# Altium footprint library CONN_USB_C.PcbLib: 34 footprints (part 1 of 3)
Each footprint in its own frame and in the unit in brackets; x right, y up, seen from the top. Pads: shape width x height; smd on the part's side, far side on the other; paste and mask are expansions set on the pad; w line width, h text height; cw(c..) or ccw(c..) is an arc to the next point about the centre after c.
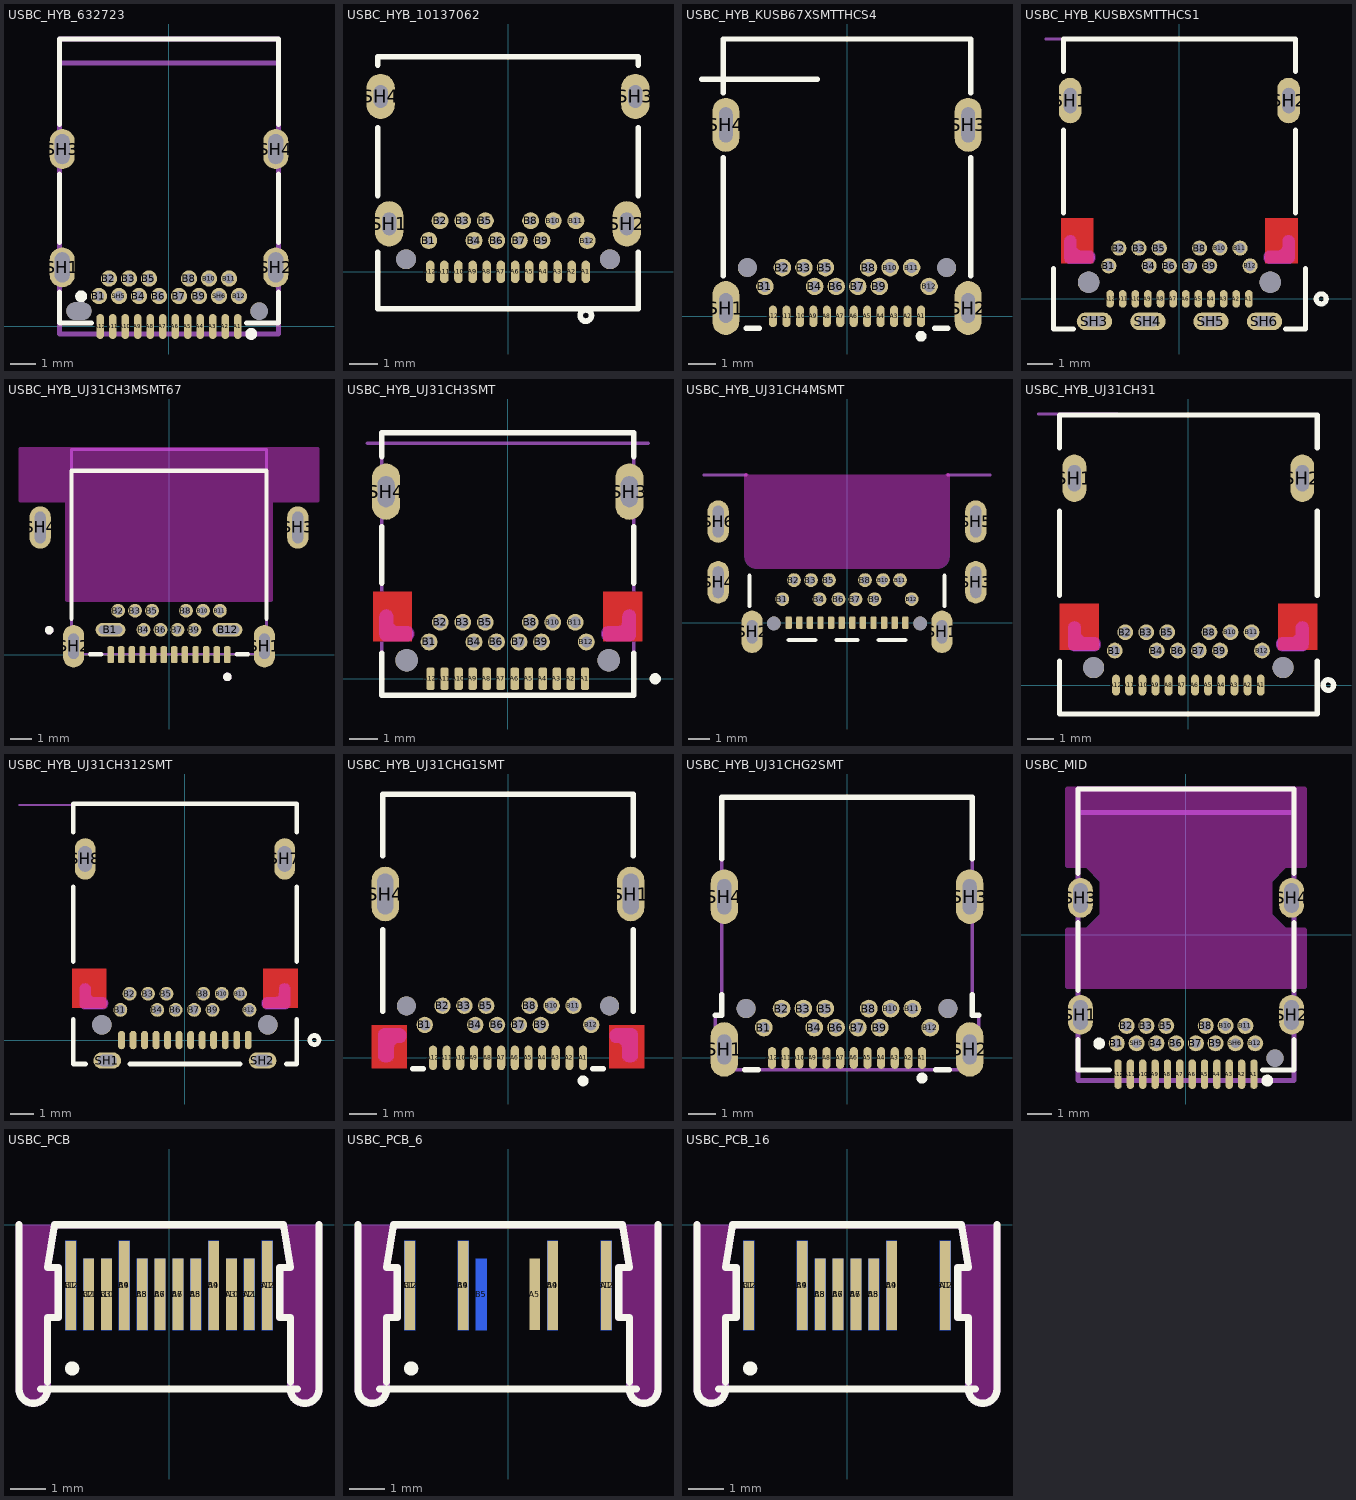
[diagram p0: the footprints below, top view; thin cyan lines are the x and y axes]

## USBC_CABLE [mm] "CONN, USB C , CABLE"
3D body "dx07518s10n18747.stp": height 3.18, standoff -3.17, extent -6.1,0 6.1,65.786

## USBC_HYB_632723 [mm] "CONN, USB, Type C, USB 3.1, Receptacle Horizontal, 632723"
height 2.96
pads (32):
  oval 0.3x1 smd mask+0.075: A1(2.75,0) A2(2.25,0) A3(1.75,0) A4(1.25,0) A5(0.75,0) A6(0.25,0) A7(-0.25,0) A8(-0.75,0) A9(-1.25,0) A10(-1.75,0) A11(-2.25,0) A12(-2.75,0)
  round 0.65 hole 0.4: B1(-2.8,1.215) B2(-2.4,1.915) B3(-1.6,1.915) B4(-1.2,1.215) B5(-0.8,1.915) B6(-0.4,1.215) B7(0.4,1.215) B8(0.8,1.915) B9(1.2,1.215) B10(1.6,1.915) B11(2.4,1.915) B12(2.8,1.215) SH5(-2,1.215) SH6(2,1.215)
  oval 1x1.6 hole 0.6 slot 1.2 at 90 deg: SH1(-4.27,2.365) SH2(4.27,2.365) SH3(-4.27,7.095) SH4(4.27,7.095)
  oval 1x0.7 hole 0.7 slot 1 at 0 deg unplated mask+0.05: ""(-3.6,0.615)
  round 0.7 hole 0.7 unplated mask+0.05: ""(3.6,0.615)
Top Overlay:
  circle w0.25: c-3.512,1.205 r0.114
  circle w0.25: c3.288,-0.295 r0.114
  lines w0.2: -4.37,1.375 -4.37,0.135 -3.1,0.135 ; -4.37,3.355 -4.37,6.095 ; -4.37,8.085 -4.37,11.495 4.37,11.495 4.37,8.085 ; 3.1,0.135 4.37,0.135 4.37,1.375 ; 4.37,3.355 4.37,6.095
Mechanical 13:
  lines w0.2: -4.37,-0.295 -4.37,11.495 4.37,11.495 4.37,-0.295 -4.37,-0.295
Mechanical 15:
  lines w0.2: -4.37,10.545 4.37,10.545
3D body "632723100011.stp": height 3.05, standoff -1.41, extent -4.37,-0.299 4.37,11.495

## USBC_HYB_10137062 [mm] "CONN, USB, Type C, 10137062"
height 3.2
pads (30):
  oval 0.3x0.8 smd mask+0.075: A1(2.75,0) A2(2.25,0) A3(1.75,0) A4(1.25,0) A5(0.75,0) A6(0.25,0) A7(-0.25,0) A8(-0.75,0) A9(-1.25,0) A10(-1.75,0) A11(-2.25,0) A12(-2.75,0)
  round 0.6 hole 0.3 mask+0.075: B1(-2.8,1.11) B2(-2.4,1.81) B3(-1.6,1.81) B4(-1.2,1.11) B5(-0.8,1.81) B6(-0.4,1.11) B7(0.4,1.11) B8(0.8,1.81) B9(1.2,1.11) B10(1.6,1.81) B11(2.4,1.81) B12(2.8,1.11)
  oval 1x1.6 hole 0.5 slot 0.8 at 90 deg: SH1(-4.2,1.7) SH2(4.2,1.7) SH3(4.5,6.2) SH4(-4.5,6.2)
  round 0.7 hole 0.7 unplated: ""(-3.6,0.45) ""(3.6,0.45)
Top Overlay:
  circle w0.2: c2.75,-1.54 r0.2
  lines w0.2: -4.6,0.7 -4.6,-1.3 4.6,-1.3 4.6,0.7 ; -4.6,2.7 -4.6,5.1 ; -4.6,7.31 -4.6,7.6 4.6,7.6 4.6,7.31 ; 4.6,2.7 4.6,5.1
3D body "10137062c.stp": height 3.17, standoff -1.02, extent -4.825,-1.2 4.825,7.5

## USBC_HYB_KUSB67XSMTTHCS4 [mm] "CONN, USB, Type C, KUSB67X-SMTTH-CS4"
pads (30):
  oval 0.3x0.8 smd mask+0.075: A1(2.75,0) A2(2.25,0) A3(1.75,0) A4(1.25,0) A5(0.75,0) A6(0.25,0) A7(-0.25,0) A8(-0.75,0) A9(-1.25,0) A10(-1.75,0) A11(-2.25,0) A12(-2.75,0)
  round 0.65 hole 0.4 mask+0.075: B1(-3.05,1.11) B2(-2.4,1.81) B3(-1.6,1.81) B4(-1.2,1.11) B5(-0.8,1.81) B6(-0.4,1.11) B7(0.4,1.11) B8(0.8,1.81) B9(1.2,1.11) B10(1.6,1.81) B11(2.4,1.81) B12(3.05,1.11)
  oval 1x2 hole 0.5 slot 1.1 at 90 deg: SH1(-4.5,0.31) SH2(4.5,0.31)
  oval 1x2 hole 0.5 slot 1.3 at 90 deg: SH3(4.5,7.11) SH4(-4.5,7.11)
  round 0.7 hole 0.7 unplated: ""(-3.7,1.81) ""(3.7,1.81)
Top Overlay:
  circle w0.2: c2.75,-0.74 r0.1
  lines w0.2: -5.4,8.8 -1.1,8.8 ; -4.6,1.5 -4.6,5.9 ; -4.6,8.3 -4.6,10.3 4.6,10.3 4.6,8.3 ; -3.75,-0.44 -3.25,-0.44 ; 3.25,-0.44 3.75,-0.44 ; 4.6,1.5 4.6,5.9
Mechanical 13:
  text "PCB EDGE" at -0.8,8.6 h0.4
3D body "KUSB67X-SMTTH-CS4-BTR_A.STEP": height 3.72, standoff -0.6, extent -4.87,-0.45 4.87,10.2

## USBC_HYB_KUSBXSMTTHCS1 [mm] "CONN, USB, Type C, KUSBX-SMTTH-CS1, UJ31-CH-314-SMT"
height 3.2
pads (32):
  oval 0.3x0.7 smd mask+0.075: A1(2.75,0) A2(2.25,0) A3(1.75,0) A4(1.25,0) A5(0.75,0) A6(0.25,0) A7(-0.25,0) A8(-0.75,0) A9(-1.25,0) A10(-1.75,0) A11(-2.25,0) A12(-2.75,0)
  round 0.6 hole 0.4: B1(-2.8,1.31) B2(-2.4,2.01) B3(-1.6,2.01) B4(-1.2,1.31) B5(-0.8,2.01) B6(-0.4,1.31) B7(0.4,1.31) B8(0.8,2.01) B9(1.2,1.31) B10(1.6,2.01) B11(2.4,2.01) B12(2.8,1.31)
  oval 0.9x1.8 hole 0.5 slot 1 at 90 deg: SH1(-4.33,7.86) SH2(4.33,7.86)
  oval 1.4x0.7 hole 0.4 slot 0.8 at 0 deg: SH3(-3.37,-0.89) SH4(-1.25,-0.89) SH5(1.25,-0.89) SH6(3.37,-0.89)
  round 0.85 hole 0.85 unplated: ""(-3.6,0.66) ""(3.6,0.66)
Top Layer:
  rectangle: -4.7,1.4 -3.4,3.2
  region: 4.7,3.2 3.4,3.2 3.4,1.4 4.7,1.4
Top Overlay:
  circle w0.2: c5.62,0 r0.2
  lines w0.2: -5,1.2 -5,-1.2 -4.2,-1.2 ; -4.6,3.4 -4.6,6.7 ; -4.6,9.01 -4.6,10.3 4.6,10.3 4.6,9.01 ; 4.2,-1.2 5,-1.2 5,1.2 ; 4.6,3.4 4.6,6.7
Keep-Out Layer:
  board cut-out: 4.325,1.425 4.365,1.425 4.438,1.455 4.495,1.512 4.525,1.585 4.525,1.625 4.525,2.275 4.525,2.315 4.495,2.388 4.438,2.445 4.365,2.475 4.325,2.475 4.285,2.475 4.212,2.445 4.155,2.388 4.125,2.315 4.125,2.275 4.125,2.075 4.121,2.036 4.091,1.964 4.036,1.909 3.964,1.879 3.925,1.875 3.575,1.875 3.535,1.875 3.462,1.845 3.405,1.788 3.375,1.715 3.375,1.675 3.375,1.625 3.375,1.585 3.405,1.512 3.462,1.455 3.535,1.425 3.575,1.425
  board cut-out: -4.325,1.425 -4.365,1.425 -4.438,1.455 -4.495,1.512 -4.525,1.585 -4.525,1.625 -4.525,2.275 -4.525,2.315 -4.495,2.388 -4.438,2.445 -4.365,2.475 -4.325,2.475 -4.285,2.475 -4.212,2.445 -4.155,2.388 -4.125,2.315 -4.125,2.275 -4.125,2.075 -4.121,2.036 -4.091,1.964 -4.036,1.909 -3.964,1.879 -3.925,1.875 -3.575,1.875 -3.535,1.875 -3.462,1.845 -3.405,1.788 -3.375,1.715 -3.375,1.675 -3.375,1.625 -3.375,1.585 -3.405,1.512 -3.462,1.455 -3.535,1.425 -3.575,1.425
Keep-Out Layer:
  lines w0.1: -4.525,1.625 ccw(c-4.325,1.625) -4.325,1.425 -3.575,1.425 ccw(c-3.575,1.625) -3.375,1.625 -3.375,1.675 ccw(c-3.575,1.675) -3.575,1.875 -3.925,1.875 cw(c-3.925,2.075) -4.125,2.075 -4.125,2.275 ccw(c-4.325,2.275) -4.325,2.475 ccw(c-4.325,2.275) -4.525,2.275 -4.525,1.625 ; 3.375,1.625 ccw(c3.575,1.625) 3.575,1.425 4.325,1.425 ccw(c4.325,1.625) 4.525,1.625 4.525,2.275 ccw(c4.325,2.275) 4.325,2.475 ccw(c4.325,2.275) 4.125,2.275 4.125,2.075 cw(c3.925,2.075) 3.925,1.875 3.575,1.875 ccw(c3.575,1.675) 3.375,1.675 3.375,1.625
Mechanical 1:
  lines w0.5: -4.325,2.25 -4.325,1.65 -3.6,1.65 ; 3.6,1.65 4.325,1.65 4.325,2.25
Mechanical 13:
  lines w0.1: -5.3,10.3 -3.9,10.3
  text "PCB EDGE" at -5.2,10.6 h0.4
3D body "KUSBX-SMTTH-CS1.STEP": height 3.18, standoff -0.88, extent -4.85,-1.05 4.85,10.25

## USBC_HYB_UJ31CH3MSMT67 [mm] "CONN, USB, Type C, Gen 2, Right-Angle, Mid Mount, HYBRID, Waterproof, UJ31-CH-3-MSMT-TR-67"
pads (28):
  rrect50% 0.3x0.8 smd mask+0.075: A1(2.75,0) A2(2.25,0) A3(1.75,0) A4(1.25,0) A5(0.75,0) A6(0.25,0) A7(-0.25,0) A8(-0.75,0) A9(-1.25,0) A10(-1.75,0) A11(-2.25,0) A12(-2.75,0)
  oval 1.4x0.65 hole 0.4 slot 1.1 at 0 deg mask+0.075: B1(-2.76,1.175) B12(2.76,1.175)
  round 0.65 hole 0.4 mask+0.075: B2(-2.4,2.075) B3(-1.6,2.075) B4(-1.2,1.175) B5(-0.8,2.075) B6(-0.4,1.175) B7(0.4,1.175) B8(0.8,2.075) B9(1.2,1.175) B10(1.6,2.075) B11(2.4,2.075)
  oval 1x2 hole 0.5 slot 1.2 at 90 deg: SH1(4.5,0.4) SH2(-4.5,0.4)
  oval 1x2 hole 0.5 slot 1.5 at 90 deg: SH3(6.075,6) SH4(-6.075,6)
Top Overlay:
  circle w0.2: c2.75,-1.045 r0.1
  circle w0.2: c-5.65,1.155 r0.1
  lines w0.2: -4.6,1.695 -4.6,8.675 4.6,8.675 4.6,1.695 ; -3.73,0.025 -3.2,0.025 ; 3.2,0.025 3.73,0.025
Keep-Out Layer:
  board cut-out: -7,7.275 -7,9.7 7,9.7 7,7.275 4.8,7.275 4.8,2.575 -4.8,2.575 -4.8,7.275
Keep-Out Layer:
  lines w0.2: -7,7.275 -4.8,7.275 -4.8,2.575 4.8,2.575 4.8,7.275 7,7.275 7,9.7 -7,9.7 -7,7.275
Mechanical 13:
  circle w0.2: c2.75,-1.045 r0.1
  circle w0.2: c-5.65,1.155 r0.1
  lines w0.127: -4.6,8.675 -4.6,0.025 4.6,0.025 4.6,8.675 ; -4.6,8.675 -4.6,9.675 4.6,9.675 4.6,8.675 ; -4.6,8.675 4.6,8.675
3D body "UJ31-CH-3-MSMT-TR-67.step": height 2.31, standoff -1.71, extent -6.175,-0.25 6.175,9.686

## USBC_HYB_UJ31CH3SMT [mm] "CONN, USB, Type C, USB 3.1 Gen 2, Right-Angle, HYBRID, UJ31-CH-3-SMT"
pads (28):
  rrect50% 0.3x0.8 smd mask+0.075: A1(2.75,0) A2(2.25,0) A3(1.75,0) A4(1.25,0) A5(0.75,0) A6(0.25,0) A7(-0.25,0) A8(-0.75,0) A9(-1.25,0) A10(-1.75,0) A11(-2.25,0) A12(-2.75,0)
  round 0.6 hole 0.4 mask+0.075: B1(-2.8,1.31) B2(-2.4,2.01) B3(-1.6,2.01) B4(-1.2,1.31) B5(-0.8,2.01) B6(-0.4,1.31) B7(0.4,1.31) B8(0.8,2.01) B9(1.2,1.31) B10(1.6,2.01) B11(2.4,2.01) B12(2.8,1.31)
  oval 1x2 hole 0.6 slot 1.1 at 90 deg: SH3(4.33,6.66) SH4(-4.33,6.66)
  round 0.8 hole 0.8 unplated: ""(-3.6,0.66) ""(3.6,0.66)
Top Layer:
  region: 3.4,3.1 3.4,1.325 4.8,1.325 4.8,3.1
  region: -4.8,3.1 -4.8,1.325 -3.4,1.325 -3.4,3.1
Top Overlay:
  circle w0.2: c5.25,0 r0.1
  lines w0.2: -4.48,0.91 -4.48,-0.59 4.48,-0.59 4.48,0.91 ; -4.48,3.41 -4.48,5.41 ; -4.48,7.91 -4.48,8.76 4.48,8.76 4.48,7.91 ; 4.48,3.41 4.48,5.41
Keep-Out Layer:
  board cut-out: -4.325,1.375 -4.365,1.375 -4.438,1.405 -4.495,1.462 -4.525,1.535 -4.525,1.575 -4.525,2.225 -4.525,2.265 -4.495,2.338 -4.438,2.395 -4.365,2.425 -4.325,2.425 -4.285,2.425 -4.212,2.395 -4.155,2.338 -4.125,2.265 -4.125,2.225 -4.125,2.025 -4.121,1.986 -4.091,1.914 -4.036,1.859 -3.964,1.829 -3.925,1.825 -3.575,1.825 -3.535,1.825 -3.462,1.795 -3.405,1.738 -3.375,1.665 -3.375,1.625 -3.375,1.575 -3.375,1.535 -3.405,1.462 -3.462,1.405 -3.535,1.375 -3.575,1.375
  board cut-out: 4.325,1.375 4.365,1.375 4.438,1.405 4.495,1.462 4.525,1.535 4.525,1.575 4.525,2.225 4.525,2.265 4.495,2.338 4.438,2.395 4.365,2.425 4.325,2.425 4.285,2.425 4.212,2.395 4.155,2.338 4.125,2.265 4.125,2.225 4.125,2.025 4.121,1.986 4.091,1.914 4.036,1.859 3.964,1.829 3.925,1.825 3.575,1.825 3.535,1.825 3.462,1.795 3.405,1.738 3.375,1.665 3.375,1.625 3.375,1.575 3.375,1.535 3.405,1.462 3.462,1.405 3.535,1.375 3.575,1.375
Keep-Out Layer:
  lines w0.1: -4.525,1.575 ccw(c-4.325,1.575) -4.325,1.375 -3.575,1.375 ccw(c-3.575,1.575) -3.375,1.575 -3.375,1.625 ccw(c-3.575,1.625) -3.575,1.825 -3.925,1.825 cw(c-3.925,2.025) -4.125,2.025 -4.125,2.225 ccw(c-4.325,2.225) -4.325,2.425 ccw(c-4.325,2.225) -4.525,2.225 -4.525,1.575 ; 3.375,1.575 ccw(c3.575,1.575) 3.575,1.375 4.325,1.375 ccw(c4.325,1.575) 4.525,1.575 4.525,2.225 ccw(c4.325,2.225) 4.325,2.425 ccw(c4.325,2.225) 4.125,2.225 4.125,2.025 cw(c3.925,2.025) 3.925,1.825 3.575,1.825 ccw(c3.575,1.625) 3.375,1.625 3.375,1.575
Mechanical 1:
  lines w0.5: -4.325,2.2 -4.325,1.6 -3.6,1.6 ; 3.6,1.6 4.325,1.6 4.325,2.2
Mechanical 13:
  circle w0.127: c2.75,-0.1 r0.06
  lines w0.127: -5,8.38 5,8.38 ; -4.48,-0.59 -4.48,8.76 4.48,8.76 4.48,-0.59 -4.48,-0.59
3D body "UJ31-CH-3-SMT-TR.step": height 3.13, standoff -0.93, extent -4.48,-0.6 4.48,8.75

## USBC_HYB_UJ31CH4MSMT [mm] "CONN, USB, Type C, UJ31-CH-4-MSMT"
pads (32):
  rrect50% 0.3x0.6 smd mask+0.075: A1(2.75,0) A2(2.25,0) A3(1.75,0) A4(1.25,0) A5(0.75,0) A6(0.25,0) A7(-0.25,0) A8(-0.75,0) A9(-1.25,0) A10(-1.75,0) A11(-2.25,0) A12(-2.75,0)
  round 0.65 hole 0.4: B1(-3.05,1.11) B2(-2.5,2.01) B3(-1.7,2.01) B4(-1.3,1.11) B5(-0.85,2.01) B6(-0.4,1.11) B7(0.4,1.11) B8(0.85,2.01) B9(1.3,1.11) B10(1.7,2.01) B11(2.5,2.01) B12(3.05,1.11)
  oval 1x2 hole 0.5 slot 1.1 at 90 deg: SH1(4.475,-0.43) SH2(-4.475,-0.43)
  oval 1x2 hole 0.5 slot 1.5 at 90 deg: SH3(6.075,1.91) SH4(-6.075,1.91) SH5(6.075,4.77) SH6(-6.075,4.77)
  round 0.65 hole 0.65 unplated: ""(-3.45,-0.03) ""(3.45,-0.03)
Top Overlay:
  lines w0.2: -4.6,0.79 -4.6,2.22 ; -2.75,-0.82 -1.5,-0.82 ; -0.5,-0.82 0.5,-0.82 ; 1.5,-0.82 2.75,-0.82 ; 4.6,0.79 4.6,2.22
Keep-Out Layer:
  board cut-out: -4.25,2.63 -4.349,2.63 -4.533,2.706 -4.674,2.847 -4.75,3.031 -4.75,3.13 -4.75,6.97 4.75,6.97 4.75,3.13 4.75,3.031 4.674,2.847 4.533,2.706 4.349,2.63 4.25,2.63
Keep-Out Layer:
  lines w0.2: -4.75,6.97 -4.75,3.13 ccw(c-4.25,3.13) -4.25,2.63 4.25,2.63 ccw(c4.25,3.13) 4.75,3.13 4.75,6.97
Mechanical 13:
  lines w0.127: -6.75,6.97 -4.75,6.97 ; 4.75,6.97 6.75,6.97
  text "PCB EDGE" at -8.806,7.201 h0.5
  text "PCB EDGE" at 4.952,7.198 h0.5
3D body "UJ31-CH-4-MSMT-TR.step": height 2.46, standoff -0.96, extent -6.175,-0.84 6.175,9.03

## USBC_HYB_UJ31CH31 [mm] "CONN, USB, Type C, UJ31-CH-31N-SMT, UJ31-CH-31-SMT"
pads (28):
  oval 0.3x0.8 smd mask+0.075: A1(2.75,0) A2(2.25,0) A3(1.75,0) A4(1.25,0) A5(0.75,0) A6(0.25,0) A7(-0.25,0) A8(-0.75,0) A9(-1.25,0) A10(-1.75,0) A11(-2.25,0) A12(-2.75,0)
  round 0.6 hole 0.4: B1(-2.8,1.31) B2(-2.4,2.01) B3(-1.6,2.01) B4(-1.2,1.31) B5(-0.8,2.01) B6(-0.4,1.31) B7(0.4,1.31) B8(0.8,2.01) B9(1.2,1.31) B10(1.6,2.01) B11(2.4,2.01) B12(2.8,1.31)
  oval 0.9x1.8 hole 0.5 slot 1 at 90 deg: SH1(-4.33,7.86) SH2(4.33,7.86)
  round 0.8 hole 0.8 unplated: ""(-3.6,0.66) ""(3.6,0.66)
Top Layer:
  region: 3.4,3.1 3.4,1.325 4.9,1.325 4.9,3.1
  region: -4.9,3.1 -4.9,1.325 -3.4,1.325 -3.4,3.1
Top Overlay:
  circle w0.2: c5.32,0 r0.2
  lines w0.2: -4.9,0.91 -4.9,-1.1 4.9,-1.1 4.9,0.91 ; -4.9,3.4 -4.9,6.6 ; -4.9,9.01 -4.9,10.26 4.9,10.26 4.9,9.01 ; 4.9,3.4 4.9,6.6
Keep-Out Layer:
  board cut-out: 4.325,1.325 4.365,1.325 4.438,1.355 4.495,1.412 4.525,1.485 4.525,1.525 4.525,2.175 4.525,2.215 4.495,2.288 4.438,2.345 4.365,2.375 4.325,2.375 4.285,2.375 4.212,2.345 4.155,2.288 4.125,2.215 4.125,2.175 4.125,1.975 4.121,1.936 4.091,1.864 4.036,1.809 3.964,1.779 3.925,1.775 3.575,1.775 3.535,1.775 3.462,1.745 3.405,1.688 3.375,1.615 3.375,1.575 3.375,1.525 3.375,1.485 3.405,1.412 3.462,1.355 3.535,1.325 3.575,1.325
  board cut-out: -4.325,1.325 -4.365,1.325 -4.438,1.355 -4.495,1.412 -4.525,1.485 -4.525,1.525 -4.525,2.175 -4.525,2.215 -4.495,2.288 -4.438,2.345 -4.365,2.375 -4.325,2.375 -4.285,2.375 -4.212,2.345 -4.155,2.288 -4.125,2.215 -4.125,2.175 -4.125,1.975 -4.121,1.936 -4.091,1.864 -4.036,1.809 -3.964,1.779 -3.925,1.775 -3.575,1.775 -3.535,1.775 -3.462,1.745 -3.405,1.688 -3.375,1.615 -3.375,1.575 -3.375,1.525 -3.375,1.485 -3.405,1.412 -3.462,1.355 -3.535,1.325 -3.575,1.325
Keep-Out Layer:
  lines w0.1: -4.525,1.525 ccw(c-4.325,1.525) -4.325,1.325 -3.575,1.325 ccw(c-3.575,1.525) -3.375,1.525 -3.375,1.575 ccw(c-3.575,1.575) -3.575,1.775 -3.925,1.775 cw(c-3.925,1.975) -4.125,1.975 -4.125,2.175 ccw(c-4.325,2.175) -4.325,2.375 ccw(c-4.325,2.175) -4.525,2.175 -4.525,1.525 ; 3.375,1.525 ccw(c3.575,1.525) 3.575,1.325 4.325,1.325 ccw(c4.325,1.525) 4.525,1.525 4.525,2.175 ccw(c4.325,2.175) 4.325,2.375 ccw(c4.325,2.175) 4.125,2.175 4.125,1.975 cw(c3.925,1.975) 3.925,1.775 3.575,1.775 ccw(c3.575,1.575) 3.375,1.575 3.375,1.525
Mechanical 1:
  lines w0.5: -4.325,2.15 -4.325,1.55 -3.6,1.55 ; 3.6,1.55 4.325,1.55 4.325,2.15
Mechanical 13:
  lines w0.1: -5.7,10.3 -2.7,10.3
  text "PCB EDGE" at -5.5,10.5 h0.4
3D body "UJ31-CH-31N-SMT-TR.step": height 3.2, standoff -0.88, extent -4.85,-1.05 4.85,10.25

## USBC_HYB_UJ31CH312SMT [mm] "CONN, USB, Type C, UJ31-CH-312-SMT"
pads (30):
  oval 0.3x0.8 smd mask+0.075: A1(2.75,0) A2(2.25,0) A3(1.75,0) A4(1.25,0) A5(0.75,0) A6(0.25,0) A7(-0.25,0) A8(-0.75,0) A9(-1.25,0) A10(-1.75,0) A11(-2.25,0) A12(-2.75,0)
  round 0.6 hole 0.4: B1(-2.8,1.31) B2(-2.4,2.01) B3(-1.6,2.01) B4(-1.2,1.31) B5(-0.8,2.01) B6(-0.4,1.31) B7(0.4,1.31) B8(0.8,2.01) B9(1.2,1.31) B10(1.6,2.01) B11(2.4,2.01) B12(2.8,1.31)
  oval 1.2x0.7 hole 0.5 slot 0.8 at 0 deg: SH1(-3.37,-0.89) SH2(3.37,-0.89)
  oval 0.9x1.8 hole 0.6 slot 1.1 at 90 deg: SH7(4.33,7.86) SH8(-4.33,7.86)
  round 0.85 hole 0.85 unplated: ""(-3.6,0.66) ""(3.6,0.66)
Top Layer:
  region: 3.4,3.1 3.4,1.4 4.9,1.4 4.9,3.1
  region: -4.9,3.1 -4.9,1.4 -3.4,1.4 -3.4,3.1
Top Overlay:
  circle w0.2: c5.62,0 r0.2
  lines w0.2: -4.85,-1.04 -4.85,0.91 ; -4.85,3.41 -4.85,6.66 ; -4.85,9.01 -4.85,10.26 4.85,10.26 4.85,9.01 ; -4.8,-1.04 -4.3,-1.04 ; -2.4,-1.04 2.4,-1.04 ; 4.4,-1.04 4.8,-1.04 ; 4.85,-1.04 4.85,0.91 ; 4.85,3.41 4.85,6.66
Keep-Out Layer:
  board cut-out: 4.325,1.365 4.365,1.365 4.438,1.395 4.495,1.452 4.525,1.525 4.525,1.565 4.525,2.215 4.525,2.255 4.495,2.328 4.438,2.385 4.365,2.415 4.325,2.415 4.285,2.415 4.212,2.385 4.155,2.328 4.125,2.255 4.125,2.215 4.125,2.015 4.121,1.976 4.091,1.904 4.036,1.849 3.964,1.819 3.925,1.815 3.575,1.815 3.535,1.815 3.462,1.785 3.405,1.728 3.375,1.655 3.375,1.615 3.375,1.565 3.375,1.525 3.405,1.452 3.462,1.395 3.535,1.365 3.575,1.365
  board cut-out: -4.325,1.365 -4.365,1.365 -4.438,1.395 -4.495,1.452 -4.525,1.525 -4.525,1.565 -4.525,2.215 -4.525,2.255 -4.495,2.328 -4.438,2.385 -4.365,2.415 -4.325,2.415 -4.285,2.415 -4.212,2.385 -4.155,2.328 -4.125,2.255 -4.125,2.215 -4.125,2.015 -4.121,1.976 -4.091,1.904 -4.036,1.849 -3.964,1.819 -3.925,1.815 -3.575,1.815 -3.535,1.815 -3.462,1.785 -3.405,1.728 -3.375,1.655 -3.375,1.615 -3.375,1.565 -3.375,1.525 -3.405,1.452 -3.462,1.395 -3.535,1.365 -3.575,1.365
Keep-Out Layer:
  lines w0.1: -4.525,1.565 ccw(c-4.325,1.565) -4.325,1.365 -3.575,1.365 ccw(c-3.575,1.565) -3.375,1.565 -3.375,1.615 ccw(c-3.575,1.615) -3.575,1.815 -3.925,1.815 cw(c-3.925,2.015) -4.125,2.015 -4.125,2.215 ccw(c-4.325,2.215) -4.325,2.415 ccw(c-4.325,2.215) -4.525,2.215 -4.525,1.565 ; 3.375,1.565 ccw(c3.575,1.565) 3.575,1.365 4.325,1.365 ccw(c4.325,1.565) 4.525,1.565 4.525,2.215 ccw(c4.325,2.215) 4.325,2.415 ccw(c4.325,2.215) 4.125,2.215 4.125,2.015 cw(c3.925,2.015) 3.925,1.815 3.575,1.815 ccw(c3.575,1.615) 3.375,1.615 3.375,1.565
Mechanical 1:
  lines w0.5: -4.325,2.2 -4.325,1.6 -3.6,1.6 ; 3.6,1.6 4.325,1.6 4.325,2.2
Mechanical 13:
  lines w0.1: -7.2,10.2 -4.9,10.2
  text "PCB EDGE" at -7.1,10.5 h0.4
3D body "UJ31-CH-312-SMT-TR.step": height 3.2, standoff -0.88, extent -4.85,-1.05 4.85,10.25

## USBC_HYB_UJ31CHG1SMT [mm] "CONN, USB, Type C, UJ31-CH-G1-SMT"
pads (28):
  oval 0.3x0.9 smd mask+0.075: A1(2.75,0) A2(2.25,0) A3(1.75,0) A4(1.25,0) A5(0.75,0) A6(0.25,0) A7(-0.25,0) A8(-0.75,0) A9(-1.25,0) A10(-1.75,0) A11(-2.25,0) A12(-2.75,0)
  round 0.6 hole 0.4: B1(-3.05,1.205) B2(-2.4,1.905) B3(-1.6,1.905) B4(-1.2,1.205) B5(-0.8,1.905) B6(-0.4,1.205) B7(0.4,1.205) B8(0.8,1.905) B9(1.2,1.205) B10(1.6,1.905) B11(2.4,1.905) B12(3.05,1.205)
  oval 1x2 hole 0.6 slot 1.5 at 90 deg: SH1(4.5,6.005) SH4(-4.5,6.005)
  round 0.7 hole 0.7 unplated: ""(-3.725,1.905) ""(3.725,1.905)
Top Layer:
  rectangle: -5,-0.4 -3.7,1.2
  region: 5,1.2 3.7,1.2 3.7,-0.4 5,-0.4
Top Overlay:
  circle w0.2: c2.75,-0.845 r0.1
  lines w0.2: -4.6,1.7 -4.6,4.7 ; -4.6,7.405 -4.6,9.655 4.6,9.655 4.6,7.405 ; -3.5,-0.4 -3.1,-0.4 ; 3.1,-0.4 3.5,-0.4 ; 4.6,1.7 4.6,4.7
Keep-Out Layer:
  board cut-out: -4.525,-0.115 -4.565,-0.115 -4.638,-0.085 -4.695,-0.028 -4.725,0.045 -4.725,0.085 -4.725,0.835 -4.725,0.875 -4.695,0.948 -4.638,1.005 -4.565,1.035 -4.525,1.035 -3.975,1.035 -3.935,1.035 -3.862,1.005 -3.805,0.948 -3.775,0.875 -3.775,0.835 -3.775,0.785 -3.775,0.745 -3.805,0.672 -3.862,0.615 -3.935,0.585 -3.975,0.585 -4.025,0.585 -4.064,0.581 -4.136,0.551 -4.191,0.496 -4.221,0.424 -4.225,0.385 -4.225,0.085 -4.225,0.045 -4.255,-0.028 -4.312,-0.085 -4.385,-0.115 -4.425,-0.115
  board cut-out: 4.525,-0.115 4.565,-0.115 4.638,-0.085 4.695,-0.028 4.725,0.045 4.725,0.085 4.725,0.835 4.725,0.875 4.695,0.948 4.638,1.005 4.565,1.035 4.525,1.035 3.975,1.035 3.935,1.035 3.862,1.005 3.805,0.948 3.775,0.875 3.775,0.835 3.775,0.785 3.775,0.745 3.805,0.672 3.862,0.615 3.935,0.585 3.975,0.585 4.025,0.585 4.064,0.581 4.136,0.551 4.191,0.496 4.221,0.424 4.225,0.385 4.225,0.085 4.225,0.045 4.255,-0.028 4.312,-0.085 4.385,-0.115 4.425,-0.115
Keep-Out Layer:
  lines w0.1: -4.725,0.085 ccw(c-4.525,0.085) -4.525,-0.115 -4.425,-0.115 ccw(c-4.425,0.085) -4.225,0.085 -4.225,0.385 cw(c-4.025,0.385) -4.025,0.585 -3.975,0.585 ccw(c-3.975,0.785) -3.775,0.785 -3.775,0.835 ccw(c-3.975,0.835) -3.975,1.035 -4.525,1.035 ccw(c-4.525,0.835) -4.725,0.835 -4.725,0.085 ; 3.775,0.785 ccw(c3.975,0.785) 3.975,0.585 4.025,0.585 cw(c4.025,0.385) 4.225,0.385 4.225,0.085 ccw(c4.425,0.085) 4.425,-0.115 4.525,-0.115 ccw(c4.525,0.085) 4.725,0.085 4.725,0.835 ccw(c4.525,0.835) 4.525,1.035 3.975,1.035 ccw(c3.975,0.835) 3.775,0.835 3.775,0.785
Mechanical 1:
  lines w0.5: -4.475,0.125 -4.475,0.8 -4.025,0.8 ; 4.025,0.8 4.475,0.8 4.475,0.125
3D body "UJ31-CH-G1-SMT-TR.step": height 3.5, standoff -0.96, extent -4.95,-0.35 4.95,9.65

## USBC_HYB_UJ31CHG2SMT [mm] "CONN, USB, Type C, UJ31-CH-G2-SMT"
pads (30):
  oval 0.3x0.8 smd mask+0.075: A1(2.75,0) A2(2.25,0) A3(1.75,0) A4(1.25,0) A5(0.75,0) A6(0.25,0) A7(-0.25,0) A8(-0.75,0) A9(-1.25,0) A10(-1.75,0) A11(-2.25,0) A12(-2.75,0)
  round 0.65 hole 0.4 mask+0.075: B1(-3.05,1.11) B2(-2.4,1.81) B3(-1.6,1.81) B4(-1.2,1.11) B5(-0.8,1.81) B6(-0.4,1.11) B7(0.4,1.11) B8(0.8,1.81) B9(1.2,1.11) B10(1.6,1.81) B11(2.4,1.81) B12(3.05,1.11)
  oval 1x2 hole 0.5 slot 1.1 at 90 deg: SH1(-4.5,0.31) SH2(4.5,0.31)
  oval 1x2 hole 0.5 slot 1.3 at 90 deg: SH3(4.5,5.91) SH4(-4.5,5.91)
  round 0.7 hole 0.7 unplated: ""(-3.7,1.81) ""(3.7,1.81)
Top Overlay:
  circle w0.2: c2.75,-0.74 r0.1
  lines w0.2: -4.825,1.56 -4.6,1.56 -4.6,2.31 ; -4.6,7.31 -4.6,9.56 4.6,9.56 4.6,7.31 ; -3.75,-0.44 -3.25,-0.44 ; 3.25,-0.44 3.75,-0.44 ; 4.6,2.31 4.6,1.56 4.825,1.56
Mechanical 13:
  lines w0.127: -4.825,-0.44 4.825,-0.44 4.825,1.56 4.6,1.56 4.6,9.56 -4.6,9.56 -4.6,1.56 -4.825,1.56 -4.825,-0.44
3D body "UJ31-CH-G2-SMT-TR.step": height 4.5, standoff -1.16, extent -4.856,-0.45 4.856,9.55

## USBC_MID [mm] "USB 3.1 Type C Receptacle Horizontal THR, MID-Mount"
height 2.96
pads (31):
  oval 0.3x1.2 smd mask+0.075: A1(2.75,-5.635) A2(2.25,-5.635) A3(1.75,-5.635) A4(1.25,-5.635) A5(0.75,-5.635) A6(0.25,-5.635) A7(-0.25,-5.635) A8(-0.75,-5.635) A9(-1.25,-5.635) A10(-1.75,-5.635) A11(-2.25,-5.635) A12(-2.75,-5.635)
  round 0.65 hole 0.4: B1(-2.8,-4.385) B2(-2.4,-3.685) B3(-1.6,-3.685) B4(-1.2,-4.385) B5(-0.8,-3.685) B6(-0.4,-4.385) B7(0.4,-4.385) B8(0.8,-3.685) B9(1.2,-4.385) B10(1.6,-3.685) B11(2.4,-3.685) B12(2.8,-4.385) SH5(-2,-4.385) SH6(2,-4.385)
  oval 1x1.6 hole 0.6 slot 1.2 at 90 deg: SH1(-4.27,-3.235) SH2(4.27,-3.235) SH3(-4.27,1.495) SH4(4.27,1.495)
  round 0.7 hole 0.7 unplated: ""(3.6,-4.985)
Top Overlay:
  circle w0.25: c3.288,-5.895 r0.114
  circle w0.25: c-3.512,-4.395 r0.114
  lines w0.2: -4.37,-4.225 -4.37,-5.465 -3.1,-5.465 ; -4.37,-2.245 -4.37,0.495 ; -4.37,2.485 -4.37,5.895 4.37,5.895 4.37,2.485 ; 3.1,-5.465 4.37,-5.465 4.37,-4.225 ; 4.37,-2.245 4.37,0.495
Keep-Out Layer:
  board cut-out: -4.75,-2.1 -4.75,0.2 -4,0.2 -3.4,0.8 -3.4,2.2 -4,2.8 -4.75,2.8 -4.75,5.9 4.75,5.9 4.75,2.8 4,2.8 3.4,2.2 3.4,0.8 4,0.2 4.75,0.2 4.75,-2.1
Keep-Out Layer:
  lines w0.2: -4.8,-2.1 -4.8,0.2 -4,0.2 -3.4,0.8 -3.4,2.2 -4,2.8 -4.8,2.8 -4.8,5.9 4.8,5.9 4.8,2.8 4,2.8 3.4,2.2 3.4,0.8 4,0.2 4.8,0.2 4.8,-2.1 -4.8,-2.1
Mechanical 13:
  lines w0.2: -4.37,-5.895 4.37,-5.895 4.37,5.895 -4.37,5.895 -4.37,-5.895
Mechanical 15:
  lines w0.2: -4.37,4.945 4.37,4.945
3D body "632723100011.stp": height 3.05, standoff -1.41, extent -4.37,-5.899 4.37,5.895

## USBC_PCB [mm] "CONN, USB C , PCB, pcb thickness must be 0.6mm"
pads (24):
  rect 0.3x2.5 smd mask+0.075: A1(2.75,-1.7) A4(1.25,-1.7) A9(-1.25,-1.7) A12(-2.75,-1.7)
  rect 0.3x2 smd mask+0.075: A2(2.25,-1.95) A3(1.75,-1.95) A5(0.75,-1.95) A6(0.25,-1.95) A7(-0.25,-1.95) A8(-0.75,-1.95) A10(-1.75,-1.95) A11(-2.25,-1.95)
  rect 0.3x2.5 smd far side mask+0.075: B1(-2.75,-1.7) B4(-1.25,-1.7) B9(1.25,-1.7) B12(2.75,-1.7)
  rect 0.3x2 smd far side mask+0.075: B2(-2.25,-1.95) B3(-1.75,-1.95) B5(-0.75,-1.95) B6(-0.25,-1.95) B7(0.25,-1.95) B8(0.75,-1.95) B10(1.75,-1.95) B11(2.25,-1.95)
Top Overlay:
  circle w0.2: c-2.712,-4.025 r0.1
  lines w0.2: -4.2,0 -4.2,-4.6 ccw(c-3.8,-4.6) -3.4,-4.6 ; -3.6,-4.6 3.6,-4.6 ; -3.4,-4.4 -3.4,-2.6 -3.1,-2.6 -3.1,-1.2 -3.4,-1.2 -3.2,0 3.2,0 3.4,-1.2 3.1,-1.2 3.1,-2.6 3.4,-2.6 3.4,-4.4 ; 3.4,-4.6 ccw(c3.8,-4.6) 4.2,-4.6 4.2,0
Bottom Overlay:
  circle w0.2: c2.712,-3.425 r0.1
Keep-Out Layer:
  board cut-out: 4.2,-4.6 4.2,0 3.2,0 3.4,-1.2 3.1,-1.2 3.1,-2.6 3.4,-2.6 3.4,-4.6 3.4,-4.68 3.461,-4.827 3.573,-4.939 3.72,-5 3.88,-5 4.027,-4.939 4.139,-4.827 4.2,-4.68
  board cut-out: -4.2,-4.6 -4.2,0 -3.2,0 -3.4,-1.2 -3.1,-1.2 -3.1,-2.6 -3.4,-2.6 -3.4,-4.6 -3.4,-4.68 -3.461,-4.827 -3.573,-4.939 -3.72,-5 -3.88,-5 -4.027,-4.939 -4.139,-4.827 -4.2,-4.68
Mechanical 1:
  lines w0.2: -4.2,0 -4.2,-4.6 ccw(c-3.8,-4.6) -3.4,-4.6 -3.4,-2.6 -3.1,-2.6 -3.1,-1.2 -3.4,-1.2 -3.2,0 3.2,0 3.4,-1.2 3.1,-1.2 3.1,-2.6 3.4,-2.6 3.4,-4.6 ccw(c3.8,-4.6) 4.2,-4.6 4.2,0

## USBC_PCB_6 [mm] "CONN, USB C , PCB, pcb thickness must be 0.6mm"
pads (10):
  rect 0.3x2.5 smd mask+0.075: A1(2.75,-1.7) A4(1.25,-1.7) A9(-1.25,-1.7) A12(-2.75,-1.7)
  rect 0.3x2 smd mask+0.075: A5(0.75,-1.95)
  rect 0.3x2.5 smd far side mask+0.075: B1(-2.75,-1.7) B4(-1.25,-1.7) B9(1.25,-1.7) B12(2.75,-1.7)
  rect 0.3x2 smd far side mask+0.075: B5(-0.75,-1.95)
Top Overlay:
  circle w0.2: c-2.712,-4.025 r0.1
  lines w0.2: -4.2,0 -4.2,-4.6 ccw(c-3.8,-4.6) -3.4,-4.6 ; -3.6,-4.6 3.6,-4.6 ; -3.4,-4.4 -3.4,-2.6 -3.1,-2.6 -3.1,-1.2 -3.4,-1.2 -3.2,0 3.2,0 3.4,-1.2 3.1,-1.2 3.1,-2.6 3.4,-2.6 3.4,-4.4 ; 3.4,-4.6 ccw(c3.8,-4.6) 4.2,-4.6 4.2,0
Bottom Overlay:
  circle w0.2: c2.712,-3.425 r0.1
Keep-Out Layer:
  board cut-out: 4.2,-4.6 4.2,0 3.2,0 3.4,-1.2 3.1,-1.2 3.1,-2.6 3.4,-2.6 3.4,-4.6 3.4,-4.68 3.461,-4.827 3.573,-4.939 3.72,-5 3.88,-5 4.027,-4.939 4.139,-4.827 4.2,-4.68
  board cut-out: -4.2,-4.6 -4.2,0 -3.2,0 -3.4,-1.2 -3.1,-1.2 -3.1,-2.6 -3.4,-2.6 -3.4,-4.6 -3.4,-4.68 -3.461,-4.827 -3.573,-4.939 -3.72,-5 -3.88,-5 -4.027,-4.939 -4.139,-4.827 -4.2,-4.68
Mechanical 1:
  lines w0.2: -4.2,0 -4.2,-4.6 ccw(c-3.8,-4.6) -3.4,-4.6 -3.4,-2.6 -3.1,-2.6 -3.1,-1.2 -3.4,-1.2 -3.2,0 3.2,0 3.4,-1.2 3.1,-1.2 3.1,-2.6 3.4,-2.6 3.4,-4.6 ccw(c3.8,-4.6) 4.2,-4.6 4.2,0

## USBC_PCB_16 [mm] "CONN, USB C , PCB, pcb thickness must be 0.6mm"
pads (16):
  rect 0.3x2.5 smd mask+0.075: A1(2.75,-1.7) A4(1.25,-1.7) A9(-1.25,-1.7) A12(-2.75,-1.7)
  rect 0.3x2 smd mask+0.075: A5(0.75,-1.95) A6(0.25,-1.95) A7(-0.25,-1.95) A8(-0.75,-1.95)
  rect 0.3x2.5 smd far side mask+0.075: B1(-2.75,-1.7) B4(-1.25,-1.7) B9(1.25,-1.7) B12(2.75,-1.7)
  rect 0.3x2 smd far side mask+0.075: B5(-0.75,-1.95) B6(-0.25,-1.95) B7(0.25,-1.95) B8(0.75,-1.95)
Top Overlay:
  circle w0.2: c-2.712,-4.025 r0.1
  lines w0.2: -4.2,0 -4.2,-4.6 ccw(c-3.8,-4.6) -3.4,-4.6 ; -3.6,-4.6 3.6,-4.6 ; -3.4,-4.4 -3.4,-2.6 -3.1,-2.6 -3.1,-1.2 -3.4,-1.2 -3.2,0 3.2,0 3.4,-1.2 3.1,-1.2 3.1,-2.6 3.4,-2.6 3.4,-4.4 ; 3.4,-4.6 ccw(c3.8,-4.6) 4.2,-4.6 4.2,0
Bottom Overlay:
  circle w0.2: c2.712,-3.425 r0.1
Keep-Out Layer:
  board cut-out: 4.2,-4.6 4.2,0 3.2,0 3.4,-1.2 3.1,-1.2 3.1,-2.6 3.4,-2.6 3.4,-4.6 3.4,-4.68 3.461,-4.827 3.573,-4.939 3.72,-5 3.88,-5 4.027,-4.939 4.139,-4.827 4.2,-4.68
  board cut-out: -4.2,-4.6 -4.2,0 -3.2,0 -3.4,-1.2 -3.1,-1.2 -3.1,-2.6 -3.4,-2.6 -3.4,-4.6 -3.4,-4.68 -3.461,-4.827 -3.573,-4.939 -3.72,-5 -3.88,-5 -4.027,-4.939 -4.139,-4.827 -4.2,-4.68
Mechanical 1:
  lines w0.2: -4.2,0 -4.2,-4.6 ccw(c-3.8,-4.6) -3.4,-4.6 -3.4,-2.6 -3.1,-2.6 -3.1,-1.2 -3.4,-1.2 -3.2,0 3.2,0 3.4,-1.2 3.1,-1.2 3.1,-2.6 3.4,-2.6 3.4,-4.6 ccw(c3.8,-4.6) 4.2,-4.6 4.2,0